# Altium schematic symbol library Test Point (Via).Schlib: 1 symbol
Pins are listed as number, name and electrical type; pins without a type are passive.

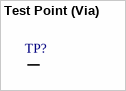
[diagram p0: symbol Test Point (Via)]

## Test Point (Via)
designator TP?  (value not drawn)
footprint TP (Test point (40mil Standard))
pins: 1